# Altium footprint library DFN-8_EP_2x3_0.5.PcbLib: 1 footprints
Each footprint in its own frame and in the unit in brackets; x right, y up, seen from the top. Pads: shape width x height; smd on the part's side, far side on the other; paste and mask are expansions set on the pad; w line width, h text height; cw(c..) or ccw(c..) is an arc to the next point about the centre after c.
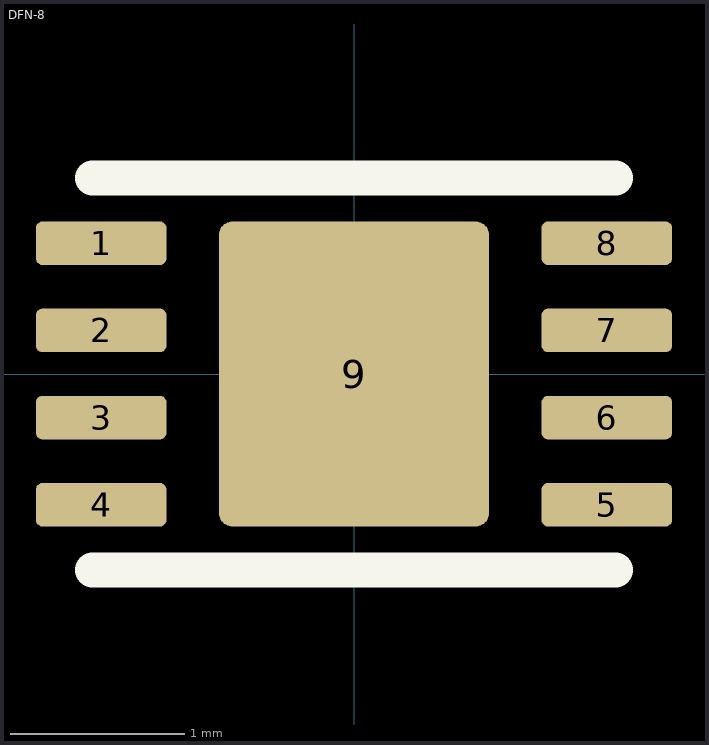
[diagram p0: the footprint, top view; thin cyan lines are the x and y axes]

## DFN-8 [mm]
pads (9):
  rrect30% 0.75x0.25 smd mask+0.075: 1(-1.45,0.75) 2(-1.45,0.25) 3(-1.45,-0.25) 4(-1.45,-0.75) 5(1.45,-0.75) 6(1.45,-0.25) 7(1.45,0.25) 8(1.45,0.75)
  rrect10% 1.55x1.75 smd mask+0.075: 9(0,0)
Top Overlay:
  lines w0.2: -1.5,-1.125 1.5,-1.125 ; -1.5,1.125 1.5,1.125
3D body "User Library-DFN-8-2.step": height 0.9, standoff 0, extent -1.523,-1.006 1.517,0.994